# Altium schematic symbol library 4-1571552-4.SchLib: 1 symbol
Pins are listed as number, name and electrical type; pins without a type are passive.

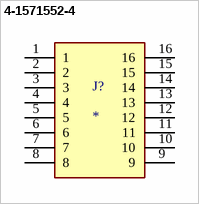
[diagram p0: symbol 4-1571552-4]

## 4-1571552-4
designator J?
Row Spacing 2.54 mm Pitch Through Hole Dip Socket; MP: 4-1571552-4; MF: {'manufacturer': u'TE Connectivity'}; Price: None; Availability: Unavailable; Value: *; Package: None
footprint TE_4-1571552-4
pins: 1, 2, 3, 4, 5, 6, 7, 8, 9, 10, 11, 12, 13, 14, 15, 16